# Altium footprint library COMPONENTES.PcbLib: 191 footprints (part 3 of 12)
Each footprint in its own frame and in the unit in brackets; x right, y up, seen from the top. Pads: shape width x height; smd on the part's side, far side on the other; paste and mask are expansions set on the pad; w line width, h text height; cw(c..) or ccw(c..) is an arc to the next point about the centre after c.
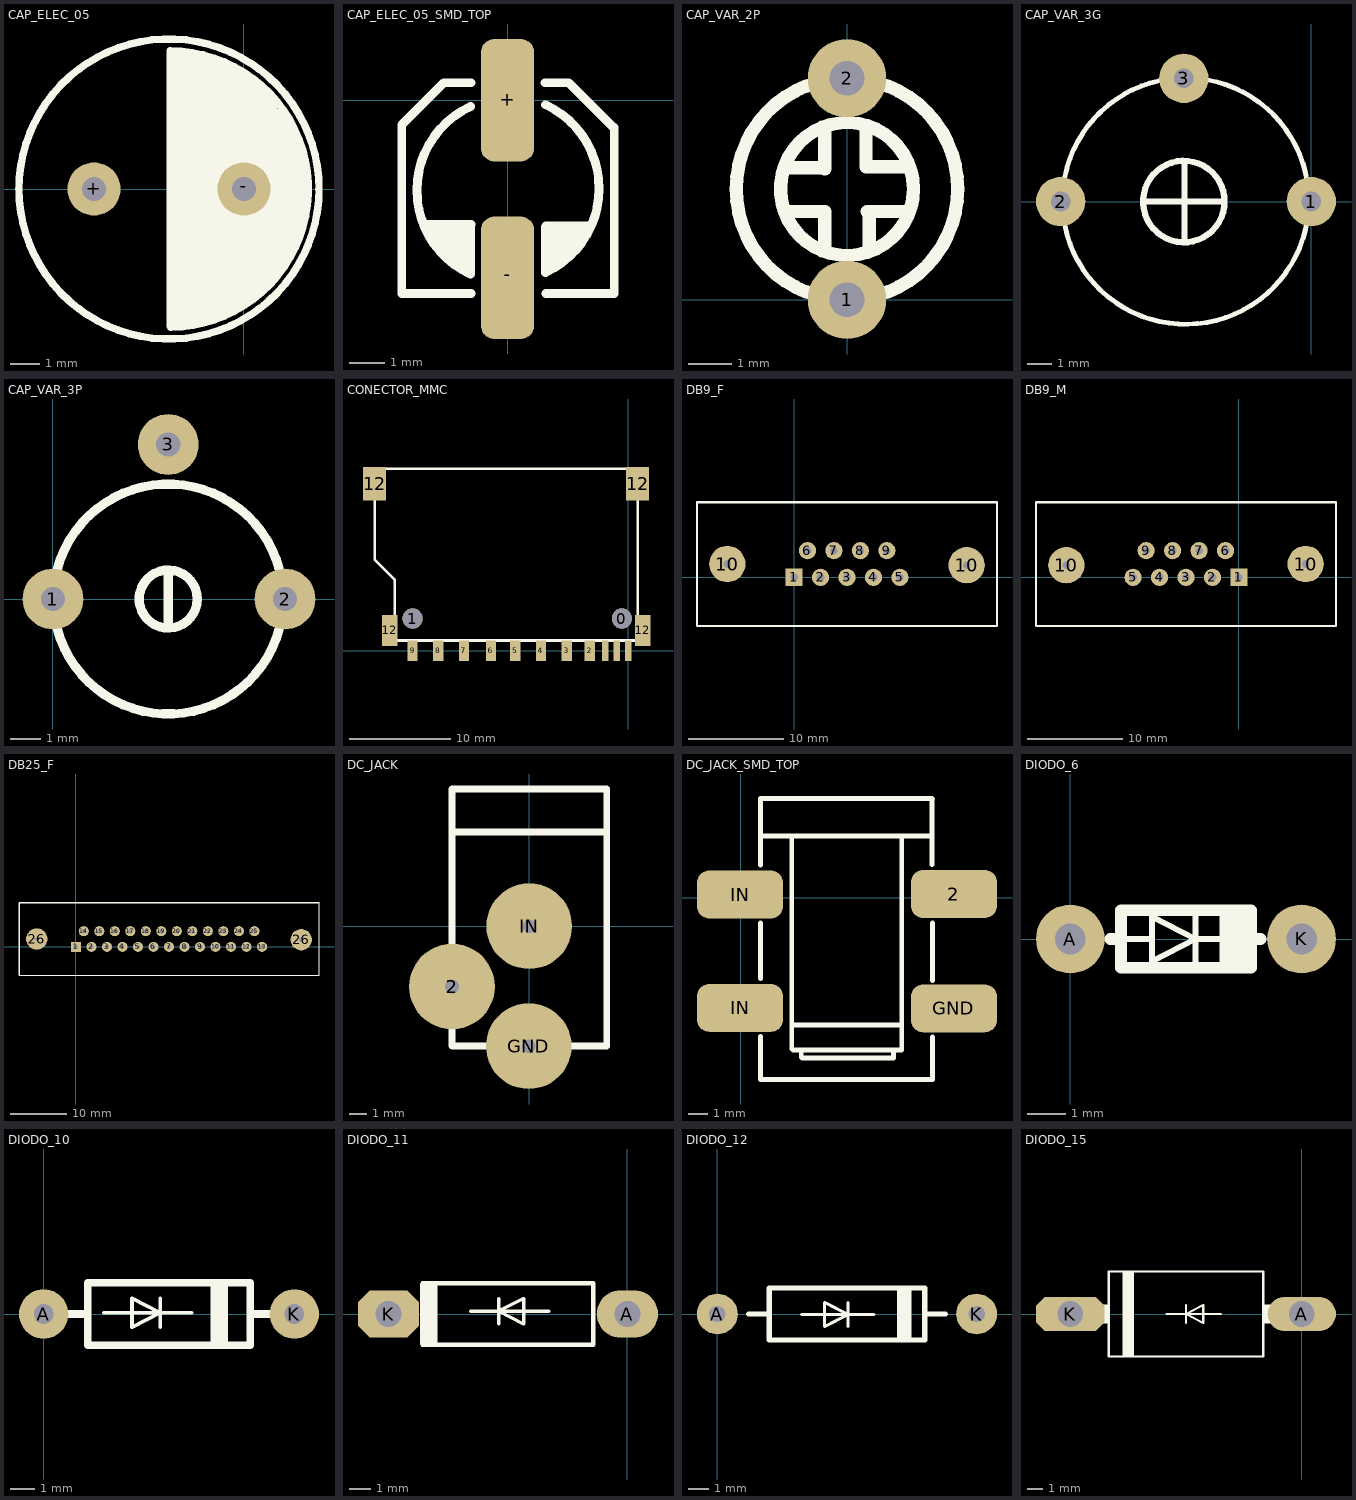
[diagram p2: the footprints below, top view; thin cyan lines are the x and y axes]

## CAP_ELEC_05 [mm]
height 2.65
pads (2):
  round 1.8 hole 0.8: +(-5.08,0) -(0,0)
Top Overlay:
  circle w0.254: c-2.54,0 r5.08
  rectangle: -1.6,-4.3 -0.65,-3.875
  rectangle: -0.025,-3.675 0.225,-3.15
  rectangle: 0.575,-3 1.075,-2.525
  rectangle: 1.225,-2 1.65,-1.45
  rectangle: 1.4,-0.4 2.2,-0.05
  rectangle: 0.975,1.55 1.7,2.025
  rectangle: -0.775,3.75 -0.375,4.125
  rectangle: 0.025,3.15 0.35,3.7
  rectangle: 0.625,2.425 1.125,2.925
  rectangle: -1.325,3.675 -0.775,4.225
  rectangle: -2.4,-4.475 -1.325,-3.725
  rectangle: -0.325,-3.325 0.725,-2.325
  rectangle: 1.125,-1.55 1.875,1.65
  rectangle: -0.425,2.075 0.75,3.325
  rectangle: -1.575,1.475 0.025,3.825
  rectangle: -1.5,-2.575 1.35,2.525
  rectangle: -2.5,-3.9 0.025,0.025
  rectangle: -2.3,-0.85 -1.25,4.475
  lines w0.254: -2.425,-4.5 -1.675,-4.5 -1.475,-4.3 -1.15,-4.3 ; -2.35,0.025 -2.35,4.45 -2.325,4.475 -1.8,4.475 ; -1.2,4.275 -0.95,4.275 -0.8,4.125 -0.55,4.125 -0.325,3.9 -0.15,3.9 0.05,3.7 0.125,3.7 ; -0.675,-4.025 -0.65,-4.025 -0.475,-3.85 ; -0.6,-4.15 -0.275,-3.825 -0.075,-3.825 ; 0.05,-3.8 0.05,-3.625 0.375,-3.3 ; 0.225,-3.65 0.6,-3.275 0.6,-3.25 ; 0.375,3.425 0.475,3.325 0.625,3.325 ; 0.6,-3.175 1.525,-2.25 1.525,-2.225 ; 0.675,3.125 0.9,2.9 1.05,2.9 ; 1.1,2.55 1.125,2.575 1.275,2.575 ; 1.225,-2.275 1.65,-1.85 1.7,-1.8 1.7,-1.425 ; 1.225,2.375 1.575,2.025 1.65,2.025 ; 1.25,2.2 1.45,2 1.45,1.975 ; 1.7,1.55 1.7,1.725 ; 1.85,-1.275 1.925,-1.2 1.925,1.225 ; -2.5,-4.65 -2.475,-4.675 ccw(c-2.5,0) -2.5,4.675 -2.5,-4.65

## CAP_ELEC_05_SMD_TOP [mm]
pads (2):
  rrect50% 1.524x3.5 smd: +(0,0) -(0,-5.075)
Top Overlay:
  rectangle: 1.3,-4.086 1.839,-3.65
  rectangle: 1.6,-3.975 2.1,-3.6
  rectangle: 1.3,-4.625 1.6,-3.975
  rectangle: 1.3,-4.161 1.764,-4
  rectangle: -1.495,-4.75 -1.064,-4.144
  rectangle: -2.075,-4.319 -1.32,-3.96
  rectangle: -1.755,-4.394 -1.245,-4.28
  rectangle: -2.075,-3.96 -1.5,-3.825
  rectangle: -2.025,-4.1 -1.064,-3.55
  lines w0.254: -3.025,-1.025 -3.025,-1 ; -2.375,-3.55 -1.05,-3.55 -1.064,-3.564 -1.064,-4.971 ; -1.054,-0.175 ccw(c0.05,-2.575) -1.064,-4.971 ; -1.05,-5.525 -3.025,-5.525 -3.025,-0.775 -3.025,-0.7 -1.825,0.5 ; -1.05,0.5 -1.825,0.5 ; 1.075,0.5 1.75,0.5 3.025,-0.775 3.05,-0.775 3.05,-5.525 1.1,-5.525 ; 1.089,-0.129 cw(c-0.025,-2.525) 1.079,-4.925 1.079,-3.621 1.1,-3.6 2.325,-3.6 1.3,-4.625 ; 1.3,-3.65 1.3,-4.625 ; 3.05,-0.925 3.05,-1.025 3.05,-0.825 ; -1.825,0.5 -1.825,0.5 ; -1.8,-3.825 -2.075,-3.55 -2.075,-3.96 -1.064,-4.971 ; -1.8,-3.825 -1.064,-3.825 -1.364,-4.125 -1.5,-4.125 -1.5,-4.139 -1.064,-4.575 -1.8,-3.839 -1.8,-3.825 ; 1.3,-4.625 1.079,-4.625 1.3,-4.625

## CAP_VAR_2P [mm]
height 2.65
pads (2):
  round 1.8 hole 0.8: 1(0,0) 2(0,5.08)
Top Overlay:
  circle w0.305: c0,2.54 r2.54
  circle w0.305: c0,2.54 r1.524
  lines w0.305: -1.413,2.025 -0.563,2.025 ; -1.413,3.025 -0.513,3.025 ; -0.513,1.2 -0.513,2.025 ; -0.513,3 -0.513,3.925 ; 0.437,3.925 0.437,3.05 1.337,3.05 ; 0.462,2.025 1.387,2.025 ; 0.512,1.175 0.512,2.025

## CAP_VAR_3G [mm]
height 2.65
pads (3):
  round 2 hole 0.8: 1(0,0) 2(-10.175,0) 3(-5.175,5)
Top Overlay:
  circle w0.2: c-5.105,0.02 r5
  circle w0.254: c-5.175,0 r1.655
  lines w0.254: -6.775,0 -3.52,0 ; -5.15,-1.625 -5.15,1.625

## CAP_VAR_3P [mm]
height 2.65
pads (3):
  round 2 hole 0.8: 1(0,0) 2(7.62,0) 3(3.785,5.075)
Top Overlay:
  circle w0.305: c3.785,0 r0.953
  circle w0.305: c3.785,0 r3.775
  lines w0.305: 3.785,-0.9 3.785,0.875

## CONECTOR_MMC [mil]
height 78.74
pads (17):
  round 78.74 hole 78.74: 0(-25,125) 1(-840,125)
  rect 25x80 smd: 1(-90,0) 10(-45,0) 11(0,0)
  rect 40x80 smd: 2(-150,0) 3(-240,0) 4(-340,0) 5(-440,0) 6(-535,0) 7(-640,0) 8(-740,0) 9(-840,0)
  rect 90x130 smd: 12(-987.64,649.61) 12(35.98,649.61)
  rect 60x120 smd: 12(-928.58,78.74) 12(55.67,78.74)
Top Overlay:
  lines w10: -987.64,354.33 -987.64,708.66 35.98,708.66 35.98,39.37 -908.9,39.37 -908.9,275.59 -987.64,354.33

## DB9_F [mm]
height 2.65
pads (11):
  rect 1.8x1.8 hole 0.8: 1(0,0)
  round 1.8 hole 0.8: 2(2.769,0) 3(5.537,0) 4(8.306,0) 5(11.074,0) 6(1.397,2.794) 7(4.166,2.794) 8(6.934,2.794) 9(9.703,2.794)
  round 3.8 hole 0.8: 10(-6.985,1.397) 10(18.059,1.27)
Top Overlay:
  lines w0.203: -10.16,-5.08 21.234,-5.08 21.234,7.874
  lines w0.254: -10.16,-5.08 -10.16,7.874 21.234,7.874

## DB9_M [mm]
height 2.65
pads (11):
  rect 1.8x1.8 hole 0.8: 1(0,0)
  round 1.8 hole 0.8: 2(-2.769,0) 3(-5.537,0) 4(-8.306,0) 5(-11.074,0) 6(-1.397,2.794) 7(-4.166,2.794) 8(-6.934,2.794) 9(-9.703,2.794)
  round 3.8 hole 0.8: 10(-18.059,1.27) 10(6.985,1.397)
Top Overlay:
  lines w0.203: -21.234,7.874 -21.234,-5.08 10.16,-5.08
  lines w0.254: -21.234,7.874 10.16,7.874 10.16,-5.08

## DB25_F [mm]
height 2.65
pads (27):
  rect 1.8x1.8 hole 0.8: 1(0,0)
  round 1.8 hole 0.8: 2(2.769,0) 3(5.537,0) 4(8.306,0) 5(11.074,0) 6(13.843,0) 7(16.612,0) 8(19.38,0) 9(22.149,0) 10(24.917,0) 11(27.686,0) 12(30.455,0) 13(33.223,0) 14(1.397,2.794) 15(4.166,2.794) 16(6.934,2.794) 17(9.703,2.794) 18(12.471,2.794) 19(15.24,2.794) 20(18.009,2.794) 21(20.777,2.794) 22(23.546,2.794) 23(26.314,2.794) 24(29.083,2.794) 25(31.852,2.794)
  round 3.8 hole 0.8: 26(-6.985,1.397) 26(40.208,1.27)
Top Overlay:
  lines w0.203: -10.16,-5.08 43.383,-5.08 43.383,7.874
  lines w0.254: -10.16,-5.08 -10.16,7.874 43.383,7.874

## DC_JACK [mm]
height 2.65
pads (3):
  round 5 hole 0.8: 2(-4.5,-3.525) GND(-0.025,-7) IN(0,0)
Top Overlay:
  lines w0.4: -4.475,5.5 4.35,5.5 ; -4.5,-7 4.525,-7 4.525,8 -4.5,8 -4.5,-7

## DC_JACK_SMD_TOP [mm]
pads (4):
  rrect50% 4.5x2.5 smd: 2(11.15,0.2) GND(11.15,-5.775) IN(-0.025,-5.75) IN(-0.025,0.175)
Top Overlay:
  lines w0.254: 1.05,-1.3 1.05,-4.225 ; 1.05,3.225 9.85,3.225 ; 2.675,-6.65 8.375,-6.65 ; 2.75,-7.95 8.425,-7.95 8.425,3.225 ; 3.175,-7.95 3.175,-8.325 3.225,-8.375 8,-8.375 8,-7.95 ; 10.025,-7.275 10.025,-9.5 1.05,-9.5 ; 10.025,-4.325 10.025,-1.3 ; 10.025,5.175 10,5.2 ; 1.05,-9.5 1.05,-7.25 ; 1.05,-9.5 1.05,-9.5 ; 1.05,-7.25 1.05,-7.25 ; 1.05,-4.225 1.05,-4.225 ; 1.05,1.725 1.05,1.725 ; 1.05,1.725 1.05,5.2 10,5.2 ; 10,1.75 10,1.75 ; 10,1.75 10,5.2 ; 2.675,-7.9 2.675,3.225 2.675,-7.9

## DIODO_6 [mm]
height 2.65
pads (2):
  round 1.8 hole 0.8: A(0,0) K(6.05,0.001)
Top Overlay:
  rectangle: 3.9,-0.675 4.175,0.65
  rectangle: 4.075,-0.8 4.75,0.751
  lines w0.152: 3.275,-0.584 3.275,0 ; 3.275,0.584 3.275,0 ; 4.545,0 3.275,0 ; 3.275,0 2.132,0.584 2.132,-0.584 3.275,0
  lines w0.154: 1.27,0 2.132,0
  lines w0.305: 1.041,0 1.27,0 ; 4.975,0.001 4.725,0 ; 4.725,0 4.725,-0.749 1.325,-0.749 1.325,0.751 4.725,0.751 4.725,0

## DIODO_10 [mm]
height 2.65
pads (2):
  round 2 hole 0.8: A(0,0) K(10.16,0)
Top Overlay:
  lines w0.152: 2.439,0.05 4.725,0.05 ; 4.725,-0.534 4.725,0.05 ; 4.725,0.634 4.725,0.05 ; 5.995,0.05 4.725,0.05 ; 4.725,0.05 3.582,-0.534 3.582,0.634 4.725,0.05
  lines w0.305: 1.016,0 1.778,0 ; 8.382,0 9.144,0 ; 1.778,-1.27 8.382,-1.27 8.382,1.27 1.778,1.27 1.778,-1.27
  lines w0.7: 7.112,-1.054 7.112,1.046

## DIODO_11 [mil]
height 354.33
pads (2):
  oval 110x85 hole 47.24: A(0,0)
  oct 110x85 hole 47.24: K(-429.13,0)
Top Overlay:
  region: -341.47,55.12 -372.97,55.12 -372.97,-55.12 -341.47,-55.12
  lines w6: -281.46,5 -231.46,5 ; -231.46,-18 -231.46,5 ; -231.46,28 -231.46,5 ; -141.45,5 -231.46,5 ; -231.46,5 -186.46,-18 -186.46,28 -231.46,5
  lines w7.87: -368.15,-55.12 -61.65,-55.12 -61.65,55.12 -368.15,55.12

## DIODO_12 [mm]
height 2.65
pads (2):
  round 2 hole 0.8: A(0,0) K(12.7,0)
Top Overlay:
  region: 9.512,1.27 8.812,1.27 8.812,-1.27 9.512,-1.27
  lines w0.152: 4.114,-0.025 6.4,-0.025 ; 6.4,-0.609 6.4,-0.025 ; 6.4,0.559 6.4,-0.025 ; 7.67,-0.025 6.4,-0.025 ; 6.4,-0.025 5.257,-0.609 5.257,0.559 6.4,-0.025
  lines w0.254: 1.524,0 2.54,0 ; 10.16,0 11.176,0 ; 2.54,-1.27 2.54,1.27 10.16,1.27 10.16,-1.27 2.54,-1.27

## DIODO_15 [mm]
height 9
pads (2):
  oval 4.496x2.248 hole 1.7: A(0.005,0.004)
  oct 4.496x2.248 hole 1.7: K(-15.235,0.004)
Top Overlay:
  rectangle: -2.535,-0.631 -1.646,0.639
  rectangle: -13.584,-0.631 -12.695,0.639
  rectangle: -11.806,-2.79 -11.044,2.798
  lines w0.152: -8.885,0.004 -7.615,0.004 ; -7.615,-0.58 -7.615,0.004 ; -7.615,0.588 -7.615,0.004 ; -5.329,0.004 -7.615,0.004 ; -7.615,0.004 -6.472,-0.58 -6.472,0.588 -7.615,0.004 ; -12.695,-2.79 -2.535,-2.79 -2.535,2.798 -12.695,2.798 -12.695,-2.79
  lines w1.27: -15.235,0.004 -13.838,0.004 ; -1.392,0.004 0.005,0.004